# EAGLE library part STM32G474QET6 (library STM32G474QET6)
MCU 32-bit ARM Cortex M4F RISC 512KB Flash 3.3V 128-Pin LQFP Tray Source: Datasheet <https://componentsearchengine.com/Datasheets/1/STM32G474QET6.pdf>
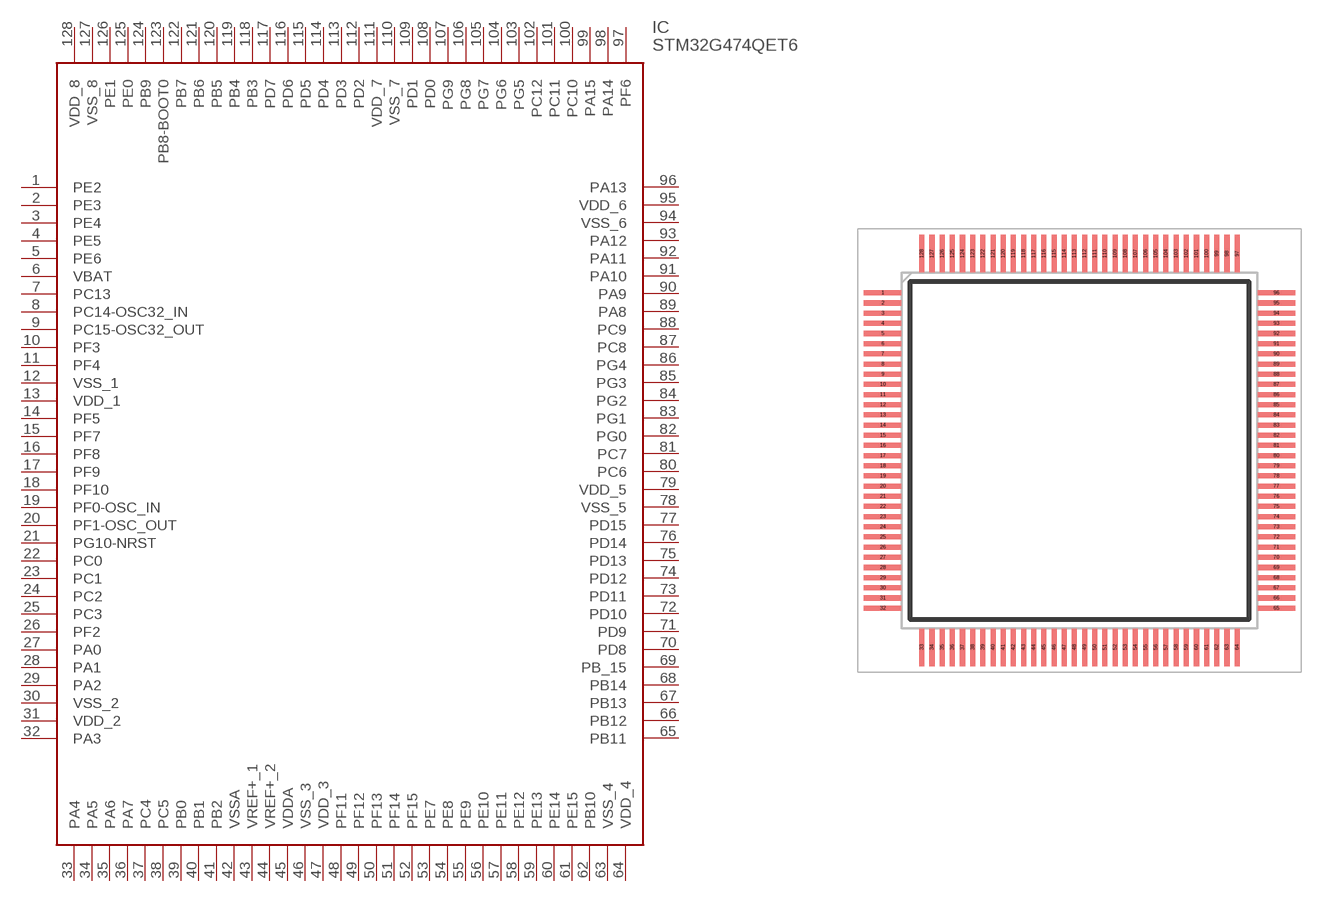
[diagram p0: symbol with the pads of QFP40P1600X1600X160-128N; footprint QFP40P1600X1600X160-128N]

Designator prefix IC

## STM32G474QET6 (Description: MCU 32-bit ARM Cortex M4F RISC 512KB Flash 3.3V 128-Pin LQFP Tray; Height: 1.6mm; Manufacturer_Name: STMicroelectronics; Manufacturer_Part_Number: STM32G474QET6; Mouser_Part_Number: 511-STM32G474QET6; Mouser_Price-Stock: https://www.mouser.co.uk/ProductDetail/STMicroelectronics/STM32G474QET6?qs=PzGy0jfpSMtk6tieSqAtNg%3D%3D)  [QFP40P1600X1600X160-128N]
1  PE2
2  PE3
3  PE4
4  PE5
5  PE6
6  VBAT
7  PC13
8  PC14-OSC32_IN
9  PC15-OSC32_OUT
10  PF3
11  PF4
12  VSS_1
13  VDD_1
14  PF5
15  PF7
16  PF8
17  PF9
18  PF10
19  PF0-OSC_IN
20  PF1-OSC_OUT
21  PG10-NRST
22  PC0
23  PC1
24  PC2
25  PC3
26  PF2
27  PA0
28  PA1
29  PA2
30  VSS_2
31  VDD_2
32  PA3
33  PA4
34  PA5
35  PA6
36  PA7
37  PC4
38  PC5
39  PB0
40  PB1
41  PB2
42  VSSA
43  VREF+_1
44  VREF+_2
45  VDDA
46  VSS_3
47  VDD_3
48  PF11
49  PF12
50  PF13
51  PF14
52  PF15
53  PE7
54  PE8
55  PE9
56  PE10
57  PE11
58  PE12
59  PE13
60  PE14
61  PE15
62  PB10
63  VSS_4
64  VDD_4
65  PB11
66  PB12
67  PB13
68  PB14
69  PB_15
70  PD8
71  PD9
72  PD10
73  PD11
74  PD12
75  PD13
76  PD14
77  PD15
78  VSS_5
79  VDD_5
80  PC6
81  PC7
82  PG0
83  PG1
84  PG2
85  PG3
86  PG4
87  PC8
88  PC9
89  PA8
90  PA9
91  PA10
92  PA11
93  PA12
94  VSS_6
95  VDD_6
96  PA13
97  PF6
98  PA14
99  PA15
100  PC10
101  PC11
102  PC12
103  PG5
104  PG6
105  PG7
106  PG8
107  PG9
108  PD0
109  PD1
110  VSS_7
111  VDD_7
112  PD2
113  PD3
114  PD4
115  PD5
116  PD6
117  PD7
118  PB3
119  PB4
120  PB5
121  PB6
122  PB7
123  PB8-BOOT0
124  PB9
125  PE0
126  PE1
127  VSS_8
128  VDD_8

## Footprint QFP40P1600X1600X160-128N (pad centres in mm)
LQFP128
smd 1.475 x 0.2: 1 -7.738,6.2; 2 -7.738,5.8; 3 -7.738,5.4; 4 -7.738,5; 5 -7.738,4.6; 6 -7.738,4.2; 7 -7.738,3.8; 8 -7.738,3.4; 9 -7.738,3; 10 -7.738,2.6; 11 -7.738,2.2; 12 -7.738,1.8; 13 -7.738,1.4; 14 -7.738,1; 15 -7.738,0.6; 16 -7.738,0.2; 17 -7.738,-0.2; 18 -7.738,-0.6; 19 -7.738,-1; 20 -7.738,-1.4; 21 -7.738,-1.8; 22 -7.738,-2.2; 23 -7.738,-2.6; 24 -7.738,-3; 25 -7.738,-3.4; 26 -7.738,-3.8; 27 -7.738,-4.2; 28 -7.738,-4.6; 29 -7.738,-5; 30 -7.738,-5.4; 31 -7.738,-5.8; 32 -7.738,-6.2; 65 7.738,-6.2; 66 7.738,-5.8; 67 7.738,-5.4; 68 7.738,-5; 69 7.738,-4.6; 70 7.738,-4.2; 71 7.738,-3.8; 72 7.738,-3.4; 73 7.738,-3; 74 7.738,-2.6; 75 7.738,-2.2; 76 7.738,-1.8; 77 7.738,-1.4; 78 7.738,-1; 79 7.738,-0.6; 80 7.738,-0.2; 81 7.738,0.2; 82 7.738,0.6; 83 7.738,1; 84 7.738,1.4; 85 7.738,1.8; 86 7.738,2.2; 87 7.738,2.6; 88 7.738,3; 89 7.738,3.4; 90 7.738,3.8; 91 7.738,4.2; 92 7.738,4.6; 93 7.738,5; 94 7.738,5.4; 95 7.738,5.8; 96 7.738,6.2
smd 0.2 x 1.475: 33 -6.2,-7.738; 34 -5.8,-7.738; 35 -5.4,-7.738; 36 -5,-7.738; 37 -4.6,-7.738; 38 -4.2,-7.738; 39 -3.8,-7.738; 40 -3.4,-7.738; 41 -3,-7.738; 42 -2.6,-7.738; 43 -2.2,-7.738; 44 -1.8,-7.738; 45 -1.4,-7.738; 46 -1,-7.738; 47 -0.6,-7.738; 48 -0.2,-7.738; 49 0.2,-7.738; 50 0.6,-7.738; 51 1,-7.738; 52 1.4,-7.738; 53 1.8,-7.738; 54 2.2,-7.738; 55 2.6,-7.738; 56 3,-7.738; 57 3.4,-7.738; 58 3.8,-7.738; 59 4.2,-7.738; 60 4.6,-7.738; 61 5,-7.738; 62 5.4,-7.738; 63 5.8,-7.738; 64 6.2,-7.738; 97 6.2,7.738; 98 5.8,7.738; 99 5.4,7.738; 100 5,7.738; 101 4.6,7.738; 102 4.2,7.738; 103 3.8,7.738; 104 3.4,7.738; 105 3,7.738; 106 2.6,7.738; 107 2.2,7.738; 108 1.8,7.738; 109 1.4,7.738; 110 1,7.738; 111 0.6,7.738; 112 0.2,7.738; 113 -0.2,7.738; 114 -0.6,7.738; 115 -1,7.738; 116 -1.4,7.738; 117 -1.8,7.738; 118 -2.2,7.738; 119 -2.6,7.738; 120 -3,7.738; 121 -3.4,7.738; 122 -3.8,7.738; 123 -4.2,7.738; 124 -4.6,7.738; 125 -5,7.738; 126 -5.4,7.738; 127 -5.8,7.738; 128 -6.2,7.738